# Altium integrated library Electromechanical.IntLib: 29 symbols
Pins are listed as number, name and electrical type; pins without a type are passive.

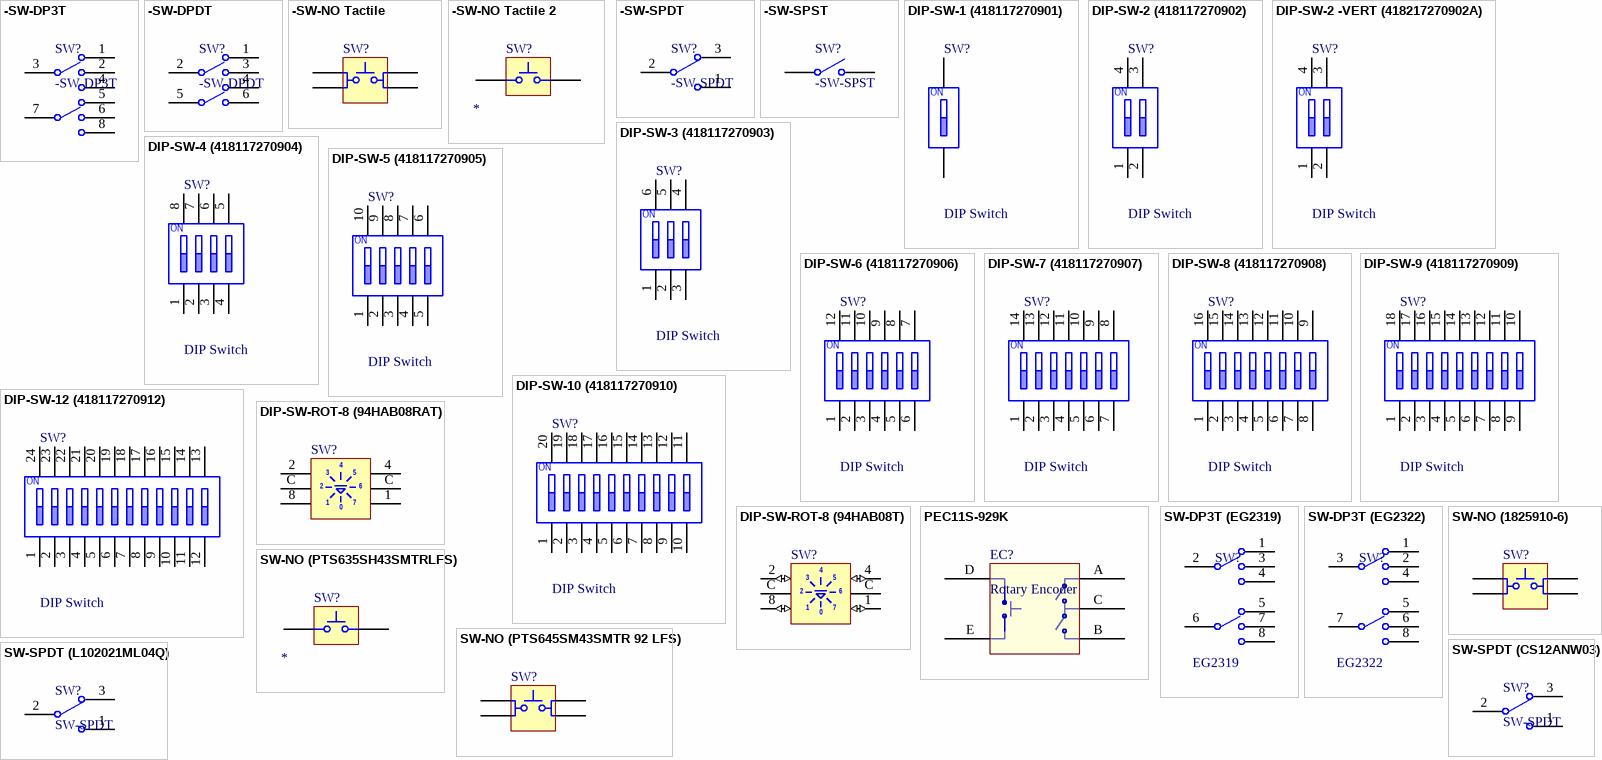
[diagram p0: symbols -SW-DP3T to SW-SPDT (L102021ML04Q)]

## -SW-DP3T
designator SW?
Dual Pole, Three Throw
footprint SW-DP3T (EG2319) (E-Switch; DP3T Slide Switch; PCB Mount Right Angle)
pins: 1, 2, 3, 4, 5, 6, 7, 8

## -SW-DPDT
designator SW?
Dual Pole, Dual Throw
footprint SW-DPDT (EG2219) (E-Switch; DPDT Slide Switch; PCB Mount Right Angle)
pins: 1, 2, 3, 4, 5, 6

## -SW-NO Tactile
designator SW?, comment SW Tactile  (value not drawn)
SPST, Normally Open, Push Button
footprint SW-TACT-SMD-6060 (Switch, SMD, 4 Leads, Body 6.0x6.0mm, Row Spacing 9.0mm, Pitch 4.5mm)
pins: 1, 2, 3, 4

## -SW-NO Tactile 2
designator SW?, comment SW Tactile  (value not drawn)
SPST, Normally Open, Push Button; Label: *
footprint SW-TACT-SMD-6035 (Switch, SMD, 4 Leads, Body 6.0x3.5mm, Row Spacing 9.0mm)
pins: 1, 2

## -SW-SPDT
designator SW?
Single-Pole, Double-Throw Switch
footprint SPST-2 (Switch; 2 Leads)
pins: 1, 2, 3

## -SW-SPST
designator SW?
Single-Pole, Single-Throw Switch
footprint SPST-2 (Switch; 2 Leads)
pins: 1 COMMON, 2 NO

## DIP-SW-1 (418117270901)
designator SW?, comment DIP Switch
SPST DIP Switch, 1 Position, 2.54mm Pitch; Value: 418117270901; Label: *; Supplier 1: Digi-Key; Supplier Part Number 1: 732-3831-5-ND
footprint DIP-SW-1 (418117270901) (01p, 2.54mm Pitch, Horizontal, Box Type, THT, raised Actuator, red, without Tape, Tube)
pins: 1, 2
text: ON

## DIP-SW-2 (418117270902)
designator SW?, comment DIP Switch
SPST DIP Switch, 2 Position. 2.54mm Pitch; Value: 418117270902; Label: *; Supplier 1: Digi-Key; Supplier Part Number 1: 732-3832-5-ND
footprint DIP-SW-2 (418117270902) (02p, 2.54mm Pitch, Horizontal, Box Type, THT, raised Actuator, red, without Tape, Tube)
pins: 1, 2, 3, 4
text: ON

## DIP-SW-2 -VERT (418217270902A)
designator SW?, comment DIP Switch
SPST DIP Switch, 2 Position, Right Angle, 2.54mm Pitch; Value: 418217270902A; Label: *; Supplier 1: Digi-Key; Supplier Part Number 1: 732-11551-5-ND
footprint DIP-SW-2-VERT (418217270902A) (02p, 2.54mm Pitch, Vertical, Box Type, THT, raised Actuator, red)
pins: 1, 2, 3, 4
text: ON

## DIP-SW-3 (418117270903)
designator SW?, comment DIP Switch
SPST DIP Switch, 3 Position, , 2.54mm Pitch; Value: 418117270903; Supplier 1: Digi-Key; Supplier Part Number 1: 732-3833-5-ND; Label: *
footprint DIP-SW-3 (418117270903) (03p, 2.54mm Pitch, Horizontal, Box Type, THT, raised Actuator, red, without Tape, Tube)
pins: 1, 2, 3, 4, 5, 6
text: ON

## DIP-SW-4 (418117270904)
designator SW?, comment DIP Switch
SPST DIP Switch, 4 Position. 2.54mm Pitch; Value: 418117270904; Label: *; Supplier 1: Digi-Key; Supplier Part Number 1: 732-3834-5-ND
footprint DIP-SW-4 (418117270904) (04p, 2.54mm Pitch, Horizontal, Box Type, THT, raised Actuator, red, without Tape, Tube)
pins: 1, 2, 3, 4, 5, 6, 7, 8
text: ON

## DIP-SW-5 (418117270905)
designator SW?, comment DIP Switch
SPST DIP Switch, 5 Position, 2.54mm Pitch; Value: 418117270905; Label: *; Supplier 1: Mouser; Supplier Part Number 1: Anonymous Daily Limit Reached
footprint DIP-SW-5 (418117270905) (05p, 2.54mm Pitch, Horizontal, Box Type, THT, raised Actuator, red, without Tape, Tube)
pins: 1, 2, 3, 4, 5, 6, 7, 8, 9, 10
text: ON

## DIP-SW-6 (418117270906)
designator SW?, comment DIP Switch
SPST DIP Switch, 6 Position, 2.54mm Pitch; Value: 418117270906; Label: *; Supplier 1: Mouser; Supplier Part Number 1: 710-418117270906
footprint DIP-SW-6 (418117270906) (06p, 2.54mm Pitch, Horizontal, Box Type, THT, raised Actuator, red, without Tape, Tube)
pins: 1, 2, 3, 4, 5, 6, 7, 8, 9, 10, 11, 12
text: ON

## DIP-SW-7 (418117270907)
designator SW?, comment DIP Switch
SPST DIP Switch, 7 Position, 2.54mm Pitch; Value: 418117270907; Label: *; Supplier 1: Mouser; Supplier Part Number 1: Anonymous Daily Limit Reached
footprint DIP-SW-7 (418117270907) (07p, 2.54mm Pitch, Horizontal, Box Type, THT, raised Actuator, red, without Tape, Tube)
pins: 1, 2, 3, 4, 5, 6, 7, 8, 9, 10, 11, 12, 13, 14
text: ON

## DIP-SW-8 (418117270908)
designator SW?, comment DIP Switch
SPST DIP Switch, 8 Position, 2.54mm Pitch; Value: 418117270908; Label: *; Supplier 1: Mouser; Supplier Part Number 1: Anonymous Daily Limit Reached
footprint DIP-SW-8 (418117270908) (08p, 2.54mm Pitch, Horizontal, Box Type, THT, raised Actuator, red, without Tape, Tube)
pins: 1, 2, 3, 4, 5, 6, 7, 8, 9, 10, 11, 12, 13, 14, 15, 16
text: ON

## DIP-SW-9 (418117270909)
designator SW?, comment DIP Switch
SPST DIP Switch, 9 Position, 2.54mm Pitch; Value: 418117270909; Label: *; Supplier 1: Mouser; Supplier Part Number 1: Anonymous Daily Limit Reached
footprint DIP-SW-9 (418117270909) (09p, 2.54mm Pitch, Horizontal, Box Type, THT, raised Actuator, red, without Tape, Tube)
pins: 1, 2, 3, 4, 5, 6, 7, 8, 9, 10, 11, 12, 13, 14, 15, 16, 17, 18
text: ON

## DIP-SW-10 (418117270910)
designator SW?, comment DIP Switch
SPST DIP Switch, 10 Position, 2.54mm Pitch; Value: 418117270910; Label: *; Supplier 1: Mouser; Supplier Part Number 1: Anonymous Daily Limit Reached
footprint DIP-SW-10 (418117270910) (10p, 2.54mm Pitch, Horizontal, Box Type, THT, raised Actuator, red, without Tape, Tube)
pins: 1, 2, 3, 4, 5, 6, 7, 8, 9, 10, 11, 12, 13, 14, 15, 16, 17, 18, 19, 20
text: ON

## DIP-SW-12 (418117270912)
designator SW?, comment DIP Switch
SPST DIP Switch, 12 Position, 2.54mm Pitch; Value: 418117270912; Label: *; Supplier 1: Digi-Key; Supplier Part Number 1: 732-3841-5-ND
footprint DIP-SW-12 (418117270912) (12p, 2.54mm Pitch, Horizontal, Box Type, THT, raised Actuator, red, without Tape, Tube)
pins: 1, 2, 3, 4, 5, 6, 7, 8, 9, 10, 11, 12, 13, 14, 15, 16, 17, 18, 19, 20, 21, 22, 23, 24
text: ON

## DIP-SW-ROT-8 (94HAB08RAT)
designator SW?, comment SW Octal DIP  (value not drawn)
Right Angle Octal Coded Switch, 8 Position, Through Hole; Value: 94HAB08RAT
footprint DIP-SW-ROT-8-RA (Coded Rotary DIP Switch, 8 Positions, Right Angle)
pins: 1, 2, 4, 8, C, C
text: 3; 5; 6; 0; 7

## DIP-SW-ROT-8 (94HAB08T)
designator SW?, comment SW Octal DIP  (value not drawn)
Octal Coded Switch, 8 Position, Through Hole, 2.54mm Pitch; Value: 94HAB08T; Supplier 1: Mouser; Supplier Part Number 1: 706-94HAB08T
footprint DIP-SW-ROT-8 (Coded Rotary DIP Switch, 8 Position, 2.54mm Pitch)
pins: 1 (io), 2 (io), 4 (io), 8 (io), C (power), C (power)
text: 3; 5; 6; 0; 7

## PEC11S-929K
designator EC?, comment Rotary Encoder
SMD Encoder with Push Button; Value: PEC11S-929K-S0015; Supplier 1: Mouser; Supplier Part Number 1: 652-PEC11S929K-S0015
footprint PEC11S-929K (Bourns - SMD rotary encoder with pushbutton, 9.5mm shaft)
pins: A, B, C, D, E

## SW-DP3T (EG2319)
designator SW?, comment value EG2319  (hidden comment: DP3T)
Dual Pole, Three Throw; Supplier 1: Mouser; Supplier Part Number 1: 612-EG2319
footprint SW-DP3T (EG2319) (E-Switch; DP3T Slide Switch; PCB Mount Right Angle)
pins: 1, 2, 3, 4, 5, 6, 7, 8

## SW-DP3T (EG2322)
designator SW?, comment value EG2322  (hidden comment: DP3T)
Dual Pole, Three Throw; Supplier 1: Mouser; Supplier Part Number 1: 612-EG2322
footprint SW-DP3T (EG2322) (E-Switch; DP3T Slide Switch; PCB Mount Right Angle)
pins: 1, 2, 3, 4, 5, 6, 7, 8

## SW-NO (1825910-6)
designator SW?, comment SW Tactile  (value not drawn)
SPST, Normally Open, Push Button; Value: 1825910-6; Label: *; Supplier 1: Digi-Key; Supplier Part Number 1: 450-1650-ND
footprint SW-TACT-TH-6060 (Switch, Through Hole, 4 Leads, Body 6.0x6.0mm, Row Spacing 9.0mm, Pitch 4.5mm)
pins: 1, 2, 3, 4

## SW-NO (PTS635SH43SMTRLFS)
designator SW?, comment SW Tactile  (value not drawn)
SPST, Normally Open, Push Button; Value: PTS635SH43SMTRLFS; Supplier 1: Mouser; Supplier Part Number 1: 611-PTS635SH43SMTRLF; Label: *
footprint SW-TACT-SMD-6035 (Switch, SMD, 4 Leads, Body 6.0x3.5mm, Row Spacing 9.0mm)
pins: 1, 2

## SW-NO (PTS645SM43SMTR 92 LFS)
designator SW?, comment SW Tactile  (value not drawn)
SPST, Normally Open, Push Button; Value: PTS645SM43SMTR 92 LFS; Label: *; Supplier 1: Digi-Key; Supplier Part Number 1: CKN9112CT-ND
footprint SW-TACT-SMD-6060 (Switch, SMD, 4 Leads, Body 6.0x6.0mm, Row Spacing 9.0mm, Pitch 4.5mm)
pins: 1, 2, 3, 4

## SW-SPDT (CS12ANW03)
designator SW?, comment SW-SPDT
Single-Pole, Double-Throw Switch; Value: CS12ANW03; Supplier 1: Mouser; Supplier Part Number 1: 633-CS12ANW03
footprint SW-SPDT (CS12ANW03) (NKK Switches; SPDT Slide Switch; PCB Mount; 3A 125V)
pins: 1, 2, 3

## SW-SPDT (L102021ML04Q)
designator SW?, comment SW-SPDT
Single-Pole, Double-Throw Switch; Value: L102021ML04Q; Supplier 1: Mouser; Supplier Part Number 1: 611-L102021ML04Q
footprint SW-SPDT (L102021ML04Q) (C&K Switches; SPDT Slide Switch; PCB Mount Right Angle)
pins: 1, 2, 3


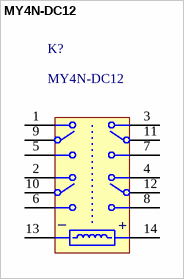
[diagram p1: symbol MY4N-DC12]

## MY4N-DC12
designator K?
4PDT Relay, 12 VDC, 165 Ohm
footprint PY14-02 (PCB Socket for Omron MY4N Relay)
pins: 1, 2, 3, 4, 5, 6, 7, 8, 9, 10, 11, 12, 13, 14
text: _; +